# EAGLE library part STM32F446ZET6 (library QFP50P2200X2200X160-144N)
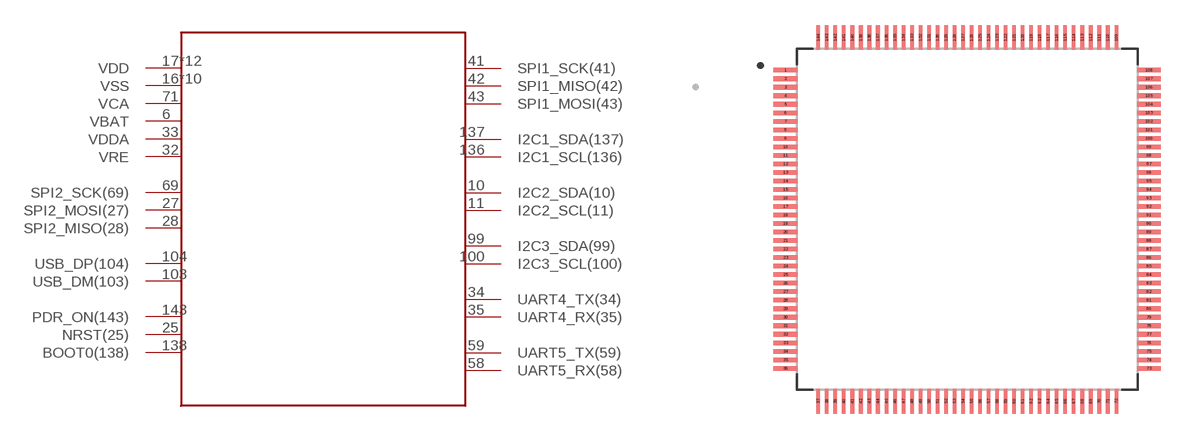
[diagram p0: symbol with the pads of STM32F446ZET6; footprint STM32F446ZET6]

Designator prefix -

## STM32F446ZET6  [STM32F446ZET6]
6  VBAT
10  I2C2_SDA(10)
11  I2C2_SCL(11)
16  VSS
17  VDD
25  NRST(25)
27  SPI2_MOSI(27)
28  SPI2_MISO(28)
30  VDD
31  VSS
32  VRE
33  VDDA
34  UART4_TX(34)
35  UART4_RX(35)
38  VSS
39  VDD
41  SPI1_SCK(41)
42  SPI1_MISO(42)
43  SPI1_MOSI(43)
51  VSS
52  VDD
58  UART5_RX(58)
59  UART5_TX(59)
61  VSS
62  VDD
69  SPI2_SCK(69)
71  VCA
72  VDD
83  VSS
84  VDD
94  VSS
95  VDD
99  I2C3_SDA(99)
100  I2C3_SCL(100)
103  USB_DM(103)
104  USB_DP(104)
107  VSS
108  VDD
120  VSS
121  VDD
130  VSS
131  VDD
136  I2C1_SCL(136)
137  I2C1_SDA(137)
138  BOOT0(138)
143  PDR_ON(143)
144  VDD

## Footprint STM32F446ZET6 (pad centres in mm)
smd 1.47 x 0.28: 1 -10.67,8.75; 2 -10.67,8.25; 3 -10.67,7.75; 4 -10.67,7.25; 5 -10.67,6.75; 6 -10.67,6.25; 7 -10.67,5.75; 8 -10.67,5.25; 9 -10.67,4.75; 10 -10.67,4.25; 11 -10.67,3.75; 12 -10.67,3.25; 13 -10.67,2.75; 14 -10.67,2.25; 15 -10.67,1.75; 16 -10.67,1.25; 17 -10.67,0.75; 18 -10.67,0.25; 19 -10.67,-0.25; 20 -10.67,-0.75; 21 -10.67,-1.25; 22 -10.67,-1.75; 23 -10.67,-2.25; 24 -10.67,-2.75; 25 -10.67,-3.25; 26 -10.67,-3.75; 27 -10.67,-4.25; 28 -10.67,-4.75; 29 -10.67,-5.25; 30 -10.67,-5.75; 31 -10.67,-6.25; 32 -10.67,-6.75; 33 -10.67,-7.25; 34 -10.67,-7.75; 35 -10.67,-8.25; 36 -10.67,-8.75; 73 10.67,-8.75; 74 10.67,-8.25; 75 10.67,-7.75; 76 10.67,-7.25; 77 10.67,-6.75; 78 10.67,-6.25; 79 10.67,-5.75; 80 10.67,-5.25; 81 10.67,-4.75; 82 10.67,-4.25; 83 10.67,-3.75; 84 10.67,-3.25; 85 10.67,-2.75; 86 10.67,-2.25; 87 10.67,-1.75; 88 10.67,-1.25; 89 10.67,-0.75; 90 10.67,-0.25; 91 10.67,0.25; 92 10.67,0.75; 93 10.67,1.25; 94 10.67,1.75; 95 10.67,2.25; 96 10.67,2.75; 97 10.67,3.25; 98 10.67,3.75; 99 10.67,4.25; 100 10.67,4.75; 101 10.67,5.25; 102 10.67,5.75; 103 10.67,6.25; 104 10.67,6.75; 105 10.67,7.25; 106 10.67,7.75; 107 10.67,8.25; 108 10.67,8.75
smd 0.28 x 1.47: 37 -8.75,-10.67; 38 -8.25,-10.67; 39 -7.75,-10.67; 40 -7.25,-10.67; 41 -6.75,-10.67; 42 -6.25,-10.67; 43 -5.75,-10.67; 44 -5.25,-10.67; 45 -4.75,-10.67; 46 -4.25,-10.67; 47 -3.75,-10.67; 48 -3.25,-10.67; 49 -2.75,-10.67; 50 -2.25,-10.67; 51 -1.75,-10.67; 52 -1.25,-10.67; 53 -0.75,-10.67; 54 -0.25,-10.67; 55 0.25,-10.67; 56 0.75,-10.67; 57 1.25,-10.67; 58 1.75,-10.67; 59 2.25,-10.67; 60 2.75,-10.67; 61 3.25,-10.67; 62 3.75,-10.67; 63 4.25,-10.67; 64 4.75,-10.67; 65 5.25,-10.67; 66 5.75,-10.67; 67 6.25,-10.67; 68 6.75,-10.67; 69 7.25,-10.67; 70 7.75,-10.67; 71 8.25,-10.67; 72 8.75,-10.67; 109 8.75,10.67; 110 8.25,10.67; 111 7.75,10.67; 112 7.25,10.67; 113 6.75,10.67; 114 6.25,10.67; 115 5.75,10.67; 116 5.25,10.67; 117 4.75,10.67; 118 4.25,10.67; 119 3.75,10.67; 120 3.25,10.67; 121 2.75,10.67; 122 2.25,10.67; 123 1.75,10.67; 124 1.25,10.67; 125 0.75,10.67; 126 0.25,10.67; 127 -0.25,10.67; 128 -0.75,10.67; 129 -1.25,10.67; 130 -1.75,10.67; 131 -2.25,10.67; 132 -2.75,10.67; 133 -3.25,10.67; 134 -3.75,10.67; 135 -4.25,10.67; 136 -4.75,10.67; 137 -5.25,10.67; 138 -5.75,10.67; 139 -6.25,10.67; 140 -6.75,10.67; 141 -7.25,10.67; 142 -7.75,10.67; 143 -8.25,10.67; 144 -8.75,10.67